# EAGLE library part LSF0102DCTR (library circuit_tree)
IC
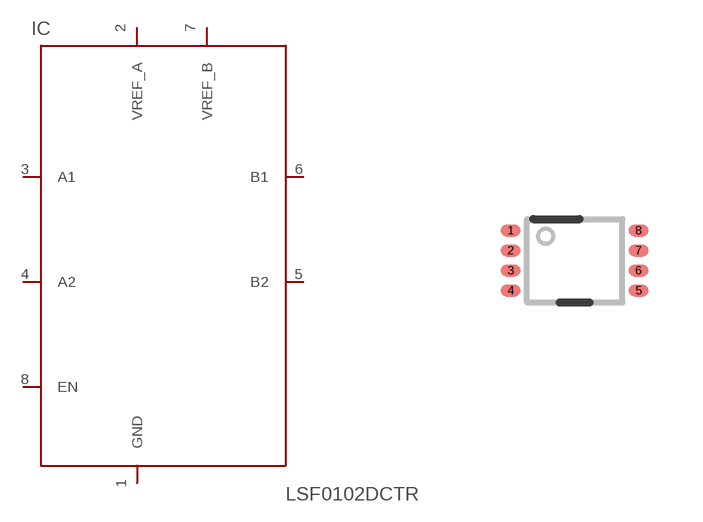
[diagram p5: symbol with the pads of DCU0008A_N; footprint DCU0008A_N]

Designator prefix IC

## LSF0102DCTR  [DCU0008A_N]
1  GND  pas
2  VREF_A  pas
3  A1  pas
4  A2  pas
5  B2  pas
6  B1  pas
7  VREF_B  pas
8  EN  pas

## Footprint DCU0008A_N (pad centres in mm)
smd 0.5 x 0.3: 1 -1.6,0.75; 2 -1.6,0.25; 3 -1.6,-0.25; 4 -1.6,-0.75; 5 1.6,-0.75; 6 1.6,-0.25; 7 1.6,0.25; 8 1.6,0.75